# EAGLE library part MPR_PRESSURE_SENSOR (library MPR_Temp)
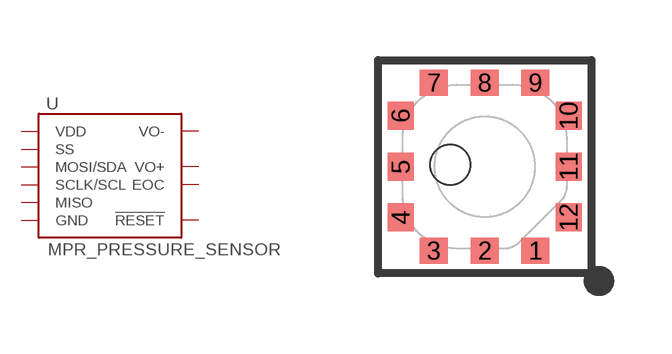
[diagram p0: symbol with the pads of MPRL; footprint MPRL]

Designator prefix U

## MPR_PRESSURE_SENSOR (PROD_ID: IC-15069; VALUE: MPR_Pressure_Sensor)  [MPRL]
1  SS
2  MOSI/SDA
3  SCLK/SCL
4  VO+
6  VO-
7  MISO
8  EOC
9  !RESET
10  GND
12  VDD

## Footprint MPRL (pad centres in mm)
smd 0.7 x 0.65: 1 1.27,-2.1; 2 0,-2.1; 3 -1.27,-2.1; 7 -1.27,2.1; 8 0,2.1; 9 1.27,2.1
smd 0.65 x 0.7: 4 -2.1,-1.27; 5 -2.1,0; 6 -2.1,1.27; 10 2.1,1.27; 11 2.1,0; 12 2.1,-1.27
hole 1 at -0.86,0.05